# EAGLE library part SDRAM_B2_A12_D32-? (library ic-RAM)
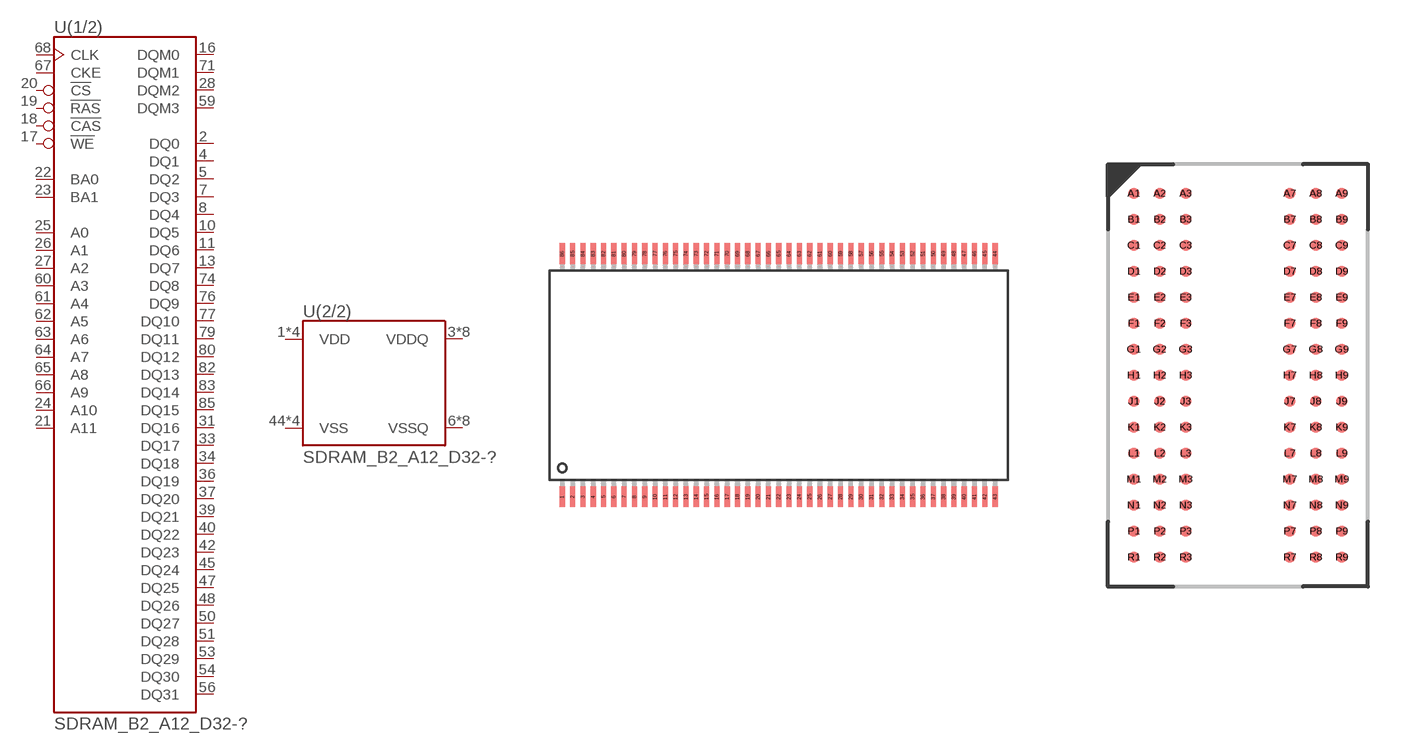
[diagram p2: symbol with the pads of TSOPII86; footprints TSOPII86, BGA90-0.8]

Designator prefix U; gates (1/2)=SDRAM_B2_A12_D32 (2/2)=SDRAM_POWER

## SDRAM_B2_A12_D32-TSOPII86  [TSOPII86]
1  (2/2):VDD
2  (1/2):DQ0
3  (2/2):VDDQ
4  (1/2):DQ1
5  (1/2):DQ2
6  (2/2):VSSQ
7  (1/2):DQ3
8  (1/2):DQ4
9  (2/2):VDDQ
10  (1/2):DQ5
11  (1/2):DQ6
12  (2/2):VSSQ
13  (1/2):DQ7
15  (2/2):VDD
16  (1/2):DQM0
17  (1/2):!WE
18  (1/2):!CAS
19  (1/2):!RAS
20  (1/2):!CS
21  (1/2):A11
22  (1/2):BA0
23  (1/2):BA1
24  (1/2):A10
25  (1/2):A0
26  (1/2):A1
27  (1/2):A2
28  (1/2):DQM2
29  (2/2):VDD
31  (1/2):DQ16
32  (2/2):VSSQ
33  (1/2):DQ17
34  (1/2):DQ18
35  (2/2):VDDQ
36  (1/2):DQ19
37  (1/2):DQ20
38  (2/2):VSSQ
39  (1/2):DQ21
40  (1/2):DQ22
41  (2/2):VDDQ
42  (1/2):DQ23
43  (2/2):VDD
44  (2/2):VSS
45  (1/2):DQ24
46  (2/2):VSSQ
47  (1/2):DQ25
48  (1/2):DQ26
49  (2/2):VDDQ
50  (1/2):DQ27
51  (1/2):DQ28
52  (2/2):VSSQ
53  (1/2):DQ29
54  (1/2):DQ30
55  (2/2):VDDQ
56  (1/2):DQ31
58  (2/2):VSS
59  (1/2):DQM3
60  (1/2):A3
61  (1/2):A4
62  (1/2):A5
63  (1/2):A6
64  (1/2):A7
65  (1/2):A8
66  (1/2):A9
67  (1/2):CKE
68  (1/2):CLK
71  (1/2):DQM1
72  (2/2):VSS
74  (1/2):DQ8
75  (2/2):VDDQ
76  (1/2):DQ9
77  (1/2):DQ10
78  (2/2):VSSQ
79  (1/2):DQ11
80  (1/2):DQ12
81  (2/2):VDDQ
82  (1/2):DQ13
83  (1/2):DQ14
84  (2/2):VSSQ
85  (1/2):DQ15
86  (2/2):VSS

## SDRAM_B2_A12_D32-FBGA90  [BGA90-0.8]
A1  (1/2):DQ26
A2  (1/2):DQ24
A3  (2/2):VSS
A7  (2/2):VDD
A8  (1/2):DQ23
A9  (1/2):DQ21
B1  (1/2):DQ28
B2  (2/2):VDDQ
B3  (2/2):VSSQ
B7  (2/2):VDDQ
B8  (2/2):VSSQ
B9  (1/2):DQ19
C1  (2/2):VSSQ
C2  (1/2):DQ27
C3  (1/2):DQ25
C7  (1/2):DQ22
C8  (1/2):DQ20
C9  (2/2):VDDQ
D1  (2/2):VSSQ
D2  (1/2):DQ29
D3  (1/2):DQ30
D7  (1/2):DQ17
D8  (1/2):DQ18
D9  (2/2):VDDQ
E1  (2/2):VDDQ
E2  (1/2):DQ31
E8  (1/2):DQ16
E9  (2/2):VSSQ
F1  (2/2):VSS
F2  (1/2):DQM3
F3  (1/2):A3
F7  (1/2):A2
F8  (1/2):DQM2
F9  (2/2):VDD
G1  (1/2):A4
G2  (1/2):A5
G3  (1/2):A6
G7  (1/2):A10
G8  (1/2):A0
G9  (1/2):A1
H1  (1/2):A7
H2  (1/2):A8
H8  (1/2):BA1
H9  (1/2):A11
J1  (1/2):CLK
J2  (1/2):CKE
J3  (1/2):A9
J7  (1/2):BA0
J8  (1/2):!CS
J9  (1/2):!RAS
K1  (1/2):DQM1
K7  (1/2):!CAS
K8  (1/2):!WE
K9  (1/2):DQM0
L1  (2/2):VDDQ
L2  (1/2):DQ8
L3  (2/2):VSS
L7  (2/2):VDD
L8  (1/2):DQ7
L9  (2/2):VSSQ
M1  (2/2):VSSQ
M2  (1/2):DQ10
M3  (1/2):DQ9
M7  (1/2):DQ6
M8  (1/2):DQ5
M9  (2/2):VDDQ
N1  (2/2):VSSQ
N2  (1/2):DQ12
N3  (1/2):DQ14
N7  (1/2):DQ1
N8  (1/2):DQ3
N9  (2/2):VDDQ
P1  (1/2):DQ11
P2  (2/2):VDDQ
P3  (2/2):VSSQ
P7  (2/2):VDDQ
P8  (2/2):VSSQ
P9  (1/2):DQ4
R1  (1/2):DQ13
R2  (1/2):DQ15
R3  (2/2):VSS
R7  (2/2):VDD
R8  (1/2):DQ0
R9  (1/2):DQ2

## Footprint TSOPII86 (pad centres in mm)
smd 0.25 x 1: 1 -10.5,-5.9; 2 -10,-5.9; 3 -9.5,-5.9; 4 -9,-5.9; 5 -8.5,-5.9; 6 -8,-5.9; 7 -7.5,-5.9; 8 -7,-5.9; 9 -6.5,-5.9; 10 -6,-5.9; 11 -5.5,-5.9; 12 -5,-5.9; 13 -4.5,-5.9; 14 -4,-5.9; 15 -3.5,-5.9; 16 -3,-5.9; 17 -2.5,-5.9; 18 -2,-5.9; 19 -1.5,-5.9; 20 -1,-5.9; 21 -0.5,-5.9; 22 0,-5.9; 23 0.5,-5.9; 24 1,-5.9; 25 1.5,-5.9; 26 2,-5.9; 27 2.5,-5.9; 28 3,-5.9; 29 3.5,-5.9; 30 4,-5.9; 31 4.5,-5.9; 32 5,-5.9; 33 5.5,-5.9; 34 6,-5.9; 35 6.5,-5.9; 36 7,-5.9; 37 7.5,-5.9; 38 8,-5.9; 39 8.5,-5.9; 40 9,-5.9; 41 9.5,-5.9; 42 10,-5.9; 43 10.5,-5.9; 44 10.5,5.9; 45 10,5.9; 46 9.5,5.9; 47 9,5.9; 48 8.5,5.9; 49 8,5.9; 50 7.5,5.9; 51 7,5.9; 52 6.5,5.9; 53 6,5.9; 54 5.5,5.9; 55 5,5.9; 56 4.5,5.9; 57 4,5.9; 58 3.5,5.9; 59 3,5.9; 60 2.5,5.9; 61 2,5.9; 62 1.5,5.9; 63 1,5.9; 64 0.5,5.9; 65 0,5.9; 66 -0.5,5.9; 67 -1,5.9; 68 -1.5,5.9; 69 -2,5.9; 70 -2.5,5.9; 71 -3,5.9; 72 -3.5,5.9; 73 -4,5.9; 74 -4.5,5.9; 75 -5,5.9; 76 -5.5,5.9; 77 -6,5.9; 78 -6.5,5.9; 79 -7,5.9; 80 -7.5,5.9; 81 -8,5.9; 82 -8.5,5.9; 83 -9,5.9; 84 -9.5,5.9; 85 -10,5.9; 86 -10.5,5.9

## Footprint BGA90-0.8 (pad centres in mm)
smd 0.34 x 0.34: A1 -3.2,5.6; A2 -2.4,5.6; A3 -1.6,5.6; A7 1.6,5.6; A8 2.4,5.6; A9 3.2,5.6; B1 -3.2,4.8; B2 -2.4,4.8; B3 -1.6,4.8; B7 1.6,4.8; B8 2.4,4.8; B9 3.2,4.8; C1 -3.2,4; C2 -2.4,4; C3 -1.6,4; C7 1.6,4; C8 2.4,4; C9 3.2,4; D1 -3.2,3.2; D2 -2.4,3.2; D3 -1.6,3.2; D7 1.6,3.2; D8 2.4,3.2; D9 3.2,3.2; E1 -3.2,2.4; E2 -2.4,2.4; E3 -1.6,2.4; E7 1.6,2.4; E8 2.4,2.4; E9 3.2,2.4; F1 -3.2,1.6; F2 -2.4,1.6; F3 -1.6,1.6; F7 1.6,1.6; F8 2.4,1.6; F9 3.2,1.6; G1 -3.2,0.8; G2 -2.4,0.8; G3 -1.6,0.8; G7 1.6,0.8; G8 2.4,0.8; G9 3.2,0.8; H1 -3.2,0; H2 -2.4,0; H3 -1.6,0; H7 1.6,0; H8 2.4,0; H9 3.2,0; J1 -3.2,-0.8; J2 -2.4,-0.8; J3 -1.6,-0.8; J7 1.6,-0.8; J8 2.4,-0.8; J9 3.2,-0.8; K1 -3.2,-1.6; K2 -2.4,-1.6; K3 -1.6,-1.6; K7 1.6,-1.6; K8 2.4,-1.6; K9 3.2,-1.6; L1 -3.2,-2.4; L2 -2.4,-2.4; L3 -1.6,-2.4; L7 1.6,-2.4; L8 2.4,-2.4; L9 3.2,-2.4; M1 -3.2,-3.2; M2 -2.4,-3.2; M3 -1.6,-3.2; M7 1.6,-3.2; M8 2.4,-3.2; M9 3.2,-3.2; N1 -3.2,-4; N2 -2.4,-4; N3 -1.6,-4; N7 1.6,-4; N8 2.4,-4; N9 3.2,-4; P1 -3.2,-4.8; P2 -2.4,-4.8; P3 -1.6,-4.8; P7 1.6,-4.8; P8 2.4,-4.8; P9 3.2,-4.8; R1 -3.2,-5.6; R2 -2.4,-5.6; R3 -1.6,-5.6; R7 1.6,-5.6; R8 2.4,-5.6; R9 3.2,-5.6